# Altium schematic symbol library p-mosfet_0.Schlib: 1 symbol
Pins are listed as number, name and electrical type; pins without a type are passive.

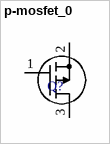
[diagram p0: symbol p-mosfet_0]

## p-mosfet_0
designator Q?  (value not drawn)
P-Channel MOSFET 3 Terminal
pins: 1 G, 2 S, 3 D